# Altium integrated library TPD12S016PWR.IntLib: 1 symbol
Pins are listed as number, name and electrical type; pins without a type are passive.

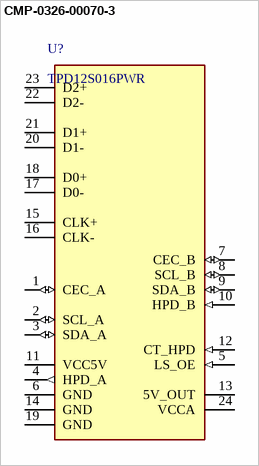
[diagram p0: symbol CMP-0326-00070-3]

## CMP-0326-00070-3
designator U?, comment TPD12S016PWR
Value-Line HDMI Companion Chip for Portable Applications, 12 Channels, -40 to +85 degC, 24-pin TSSOP (PW), Green (RoHS & no Sb/Br); Manufacturer: Texas Instruments; Differential Capacitance(pF): 0.05; IEC 61000-4-2 Contact(+/- kV): 8; SubFamily: ESD Solution; Breakdown Voltage(Min)(V): 9; IO Capacitance(Typ)(pF): 1; IO Leakage Current(nA): 1000; ComponentLink3Description: URL Link1; PackageReference: PW0024A; PackageDescription: 24-Pin Thin Small Outline Package 0.65 mm Pitch; PartNumber: TPD12S016PWR; ComponentLink3URL: SamplesURL:http://www.ti.com/product/tpd12s016#samples; ComponentLink2Description: Datasheet; ComponentLink2URL: http://www.ti.com/general/docs/lit/getliterature.tsp?genericPartNumber=TPD12S016&fileType=pdf; ComponentLink1Description: Manufacturer URL; ComponentLink1URL: http://www.ti.com/; Eco-Plan: Green (RoHS & no Sb/Br); Mounting Technology: Surface Mount; DatasheetVersion: SLLSE96A; PackageVersion: revG, Feb-2011
footprint PW0024A_N (SOP, 24-Leads, Body 7.9x4.5mm, Pitch 0.65mm, IPC Medium Density)
footprint PW0024A_L (SOP, 24-Leads, Body 7.9x4.5mm, Pitch 0.65mm, IPC High Density)
footprint PW0024A_M (SOP, 24-Leads, Body 7.9x4.5mm, Pitch 0.65mm, IPC Low Density)
pins: 1 CEC_A (io) "HDMI controller side CEC signal pin referenced to VCCA. Connect to HDMI controller.", 2 SCL_A (io) "HDMI controller side SCL signal pin referenced to VCCA. Connect to HDMI controller.", 3 SDA_A (io) "HDMI controller side SDA signal pin referenced to VCCA. Connect to HDMI controller.", 4 HPD_A (out) "Hot plug detect Output referenced to VCCA. Connect to HDMI controller Hot plug detect input pin", 5 LS_OE (in) "Disables the Level shifters when OE =L. The OE pin is referenced to VCCA", 6 GND (power) "Connect to System Ground Plane", 7 CEC_B (io) "HDMI connector side CEC signal pin referenced to internal 3.3V supply. Connect to HDMI connector CEC pin.", 8 SCL_B (io) "HDMI connector side SCL signal pin referenced to 5V_OUT supply. Connect to HDMI connector SCL pin.", 9 SDA_B (io) "HDMI connector side SDA signal pin referenced to 5V_OUT supply. Connect to HDMI connector SCL pin.", 10 HPD_B (in) "Hot plug detect Input. Connect directly to HDMI Connector Hot Plug Detect pin", 11 VCC5V (power) "Internal 5V Supply. (Input to the load siwtch.)", 12 CT_HPD (in) "Disables the load switch and HPD_B when CT_HPD =L. The CT_HPD is referenced to VCCA", 13 5V_OUT (power) "External 5V Supply. (Output of the load switch.)", 14 GND (power) "Connect to System Ground Plane", 15 CLK+ "HDMI TMDS Clock. Connect to HDMI Controller and HDMI Connector directly.", 16 CLK- "HDMI TMDS Clock. Connect to HDMI Controller and HDMI Connector directly.", 17 D0- "HDMI TMDS Data. Connect to HDMI Controller and HDMI Connector directly.", 18 D0+ "HDMI TMDS Data. Connect to HDMI Controller and HDMI Connector directly.", 19 GND (power) "Connect to System Ground Plane", 20 D1- "HDMI TMDS Data. Connect to HDMI Controller and HDMI Connector directly.", 21 D1+ "HDMI TMDS Data. Connect to HDMI Controller and HDMI Connector directly.", 22 D2- "HDMI TMDS Data. Connect to HDMI Controller and HDMI Connector directly.", 23 D2+ "HDMI TMDS Data. Connect to HDMI Controller and HDMI Connector directly.", 24 VCCA (power) "Internal PCB Low Voltage Supply (Same as the HDMI Controller Chip Supply)"